# Altium footprint library BB-HEADER-P08-P14.PcbLib: 1 footprints
Each footprint in its own frame and in the unit in brackets; x right, y up, seen from the top. Pads: shape width x height; smd on the part's side, far side on the other; paste and mask are expansions set on the pad; w line width, h text height; cw(c..) or ccw(c..) is an arc to the next point about the centre after c.
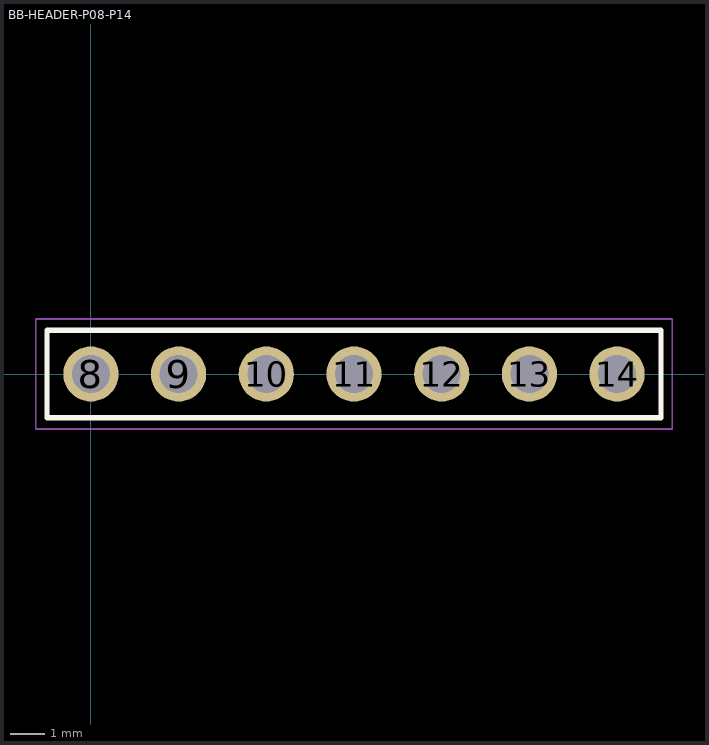
[diagram p0: the footprint, top view; thin cyan lines are the x and y axes]

## BB-HEADER-P08-P14 [mm] "BB Header, Vertical, Male, 0.1\", 2.54mm, P08-P14"
height 11.6
pads (7):
  round 1.6 hole 1.1: 8(0,0) 9(2.54,0) 10(5.08,0) 11(7.62,0) 12(10.16,0) 13(12.7,0) 14(15.24,0)
Top Overlay:
  lines w0.152: -1.27,-1.27 16.51,-1.27 16.51,1.27 -1.27,1.27 -1.27,-1.27
Mechanical 13:
  lines w0.1: -1.27,-1.27 -1.27,1.27 16.51,1.27 16.51,-1.27 -1.27,-1.27
Mechanical 15:
  lines w0.05: -1.595,-1.595 -1.595,1.595 16.835,1.595 16.835,-1.595 -1.595,-1.595
3D body: height 8.54, standoff -3, extent -1.27,-1.27 16.51,1.27